# Altium footprint library Power Board PCB Lib.PcbLib: 20 footprints (part 1 of 2)
Each footprint in its own frame and in the unit in brackets; x right, y up, seen from the top. Pads: shape width x height; smd on the part's side, far side on the other; paste and mask are expansions set on the pad; w line width, h text height; cw(c..) or ccw(c..) is an arc to the next point about the centre after c.
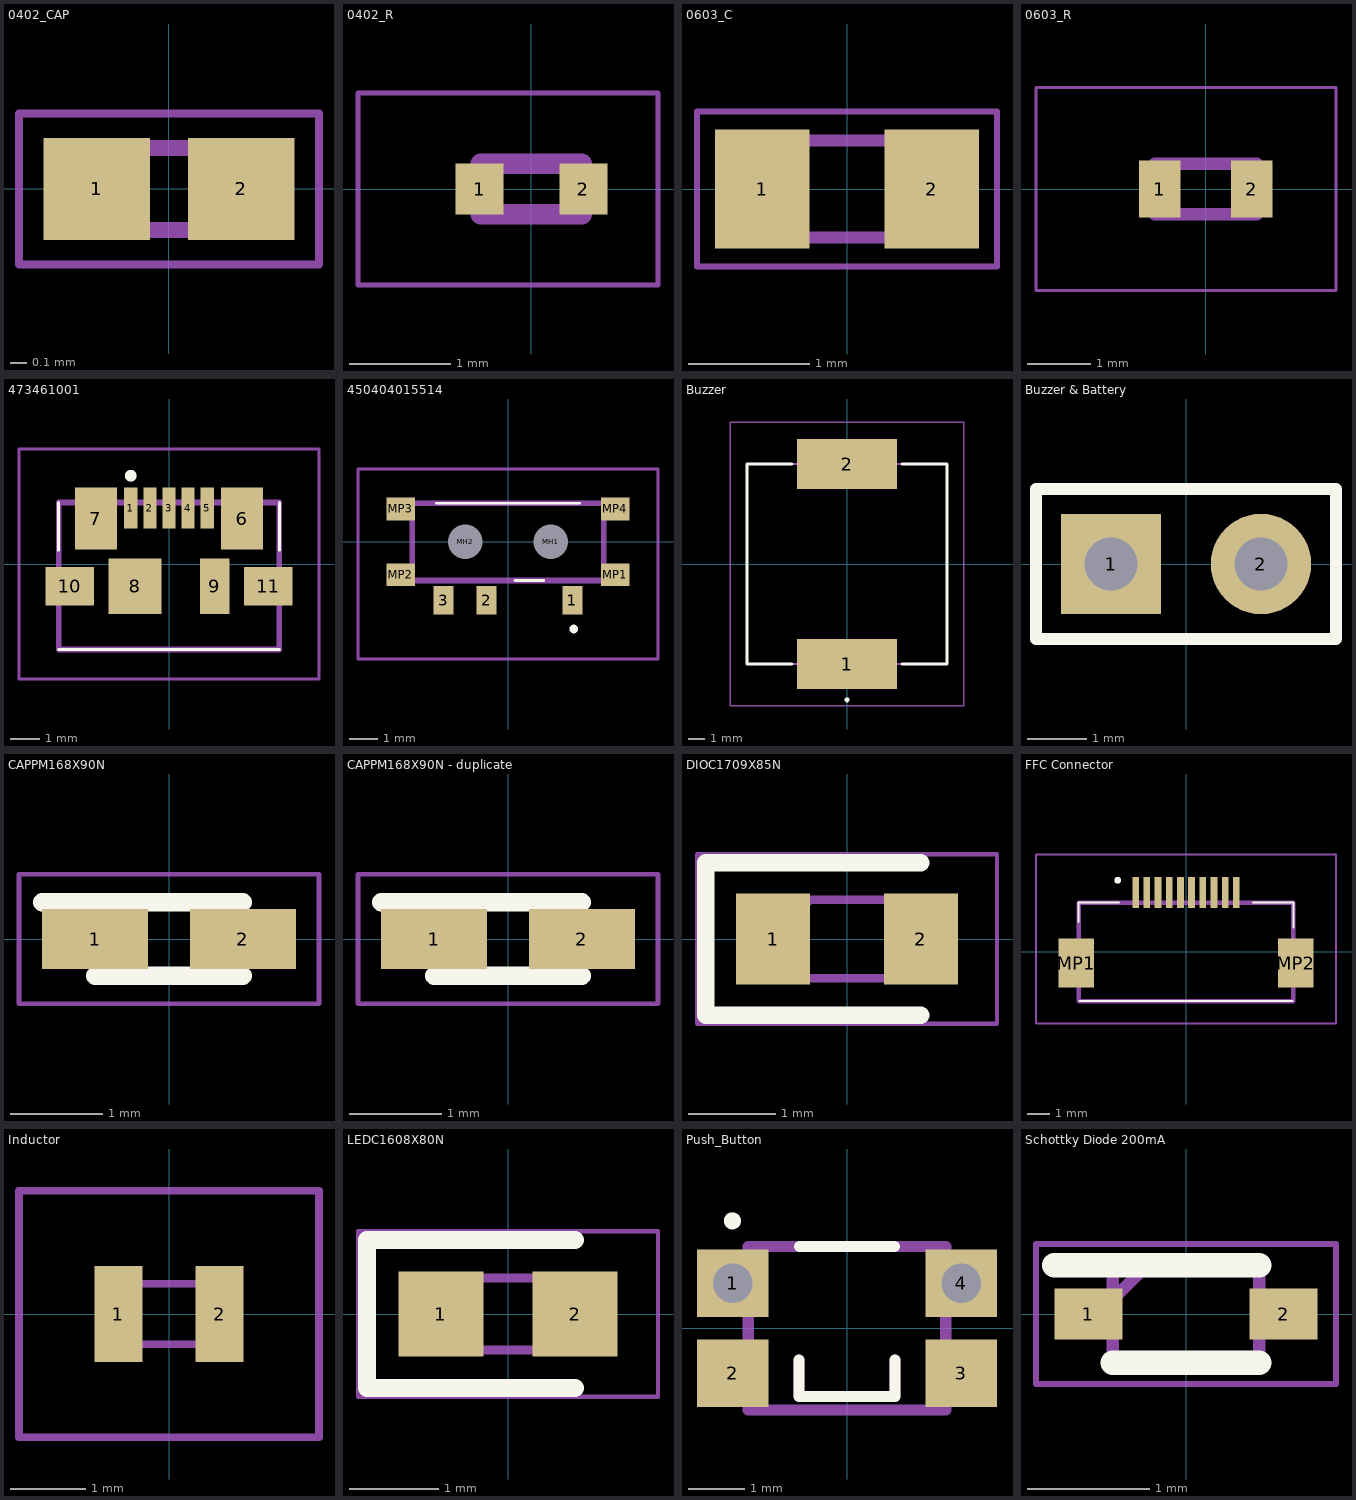
[diagram p0: the footprints below, top view; thin cyan lines are the x and y axes]

## 0402_CAP [mm]
pads (2):
  rect 0.65x0.62 smd: 1(-0.44,0) 2(0.44,0)
Mechanical 13:
  lines w0.1: -0.5,-0.25 -0.5,0.25 0.5,0.25 0.5,-0.25 -0.5,-0.25
Mechanical 15:
  lines w0.05: -0.915,-0.46 -0.915,0.46 0.915,0.46 0.915,-0.46 -0.915,-0.46
3D body "C0402C474K8RACTU.stp": height 0.55, standoff 0, extent -0.5,-0.25 0.5,0.25

## 0402_R [mm]
pads (2):
  rect 0.475x0.5 smd: 1(-0.513,0) 2(0.513,0)
Mechanical 13:
  lines w0.2: -0.5,-0.25 0.5,-0.25 0.5,0.25 -0.5,0.25 -0.5,-0.25
Mechanical 15:
  lines w0.05: -1.713,-0.95 1.25,-0.95 1.25,0.95 -1.713,0.95 -1.713,-0.95
3D body "ERA-2ARB472X.stp": height 0.35, standoff 0, extent -0.5,-0.25 0.5,0.25

## 0603_C [mm]
pads (2):
  rect 0.78x0.98 smd: 1(-0.7,0) 2(0.7,0)
Mechanical 13:
  lines w0.1: -0.8,-0.4 -0.8,0.4 0.8,0.4 0.8,-0.4 -0.8,-0.4
Mechanical 15:
  lines w0.05: -1.24,-0.64 -1.24,0.64 1.24,0.64 1.24,-0.64 -1.24,-0.64
3D body "VJ0603HIFRQ1KIT.stp": height 0.97, standoff 0, extent -0.8,-0.4 0.8,0.4

## 0603_R [mm]
pads (2):
  rect 0.65x0.9 smd: 1(-0.725,0) 2(0.725,0)
Mechanical 13:
  lines w0.2: -0.8,-0.4 0.8,-0.4 0.8,0.4 -0.8,0.4 -0.8,-0.4
Mechanical 15:
  lines w0.05: -2.675,-1.6 2.05,-1.6 2.05,1.6 -2.675,1.6 -2.675,-1.6
3D body "ERA-3KEB2403V.stp": height 0.46, standoff 0, extent -0.8,-0.4 0.8,0.4

## 473461001 [mm]
pads (11):
  rect 0.45x1.38 smd: 1(-1.3,1.903) 2(-0.65,1.903) 3(0,1.903) 4(0.65,1.903) 5(1.3,1.903)
  rect 1.425x2.1 smd: 6(2.487,1.544) 7(-2.487,1.544)
  rect 1.8x1.9 smd: 8(-1.15,-0.756)
  rect 1x1.9 smd: 9(1.55,-0.756)
  rect 1.65x1.3 smd: 10(-3.375,-0.756) 11(3.375,-0.756)
Top Overlay:
  lines w0.1: -3.75,-2.906 3.75,-2.906 ; -3.75,0.467 -3.75,2.094 ; 3.75,0.467 3.75,2.094
  lines w0.2: -1.3,2.9 ccw(c-1.3,3) -1.3,3.1 ccw(c-1.3,3) -1.3,2.9
Mechanical 13:
  lines w0.2: -3.75,-2.906 -3.75,2.094 3.75,2.094 3.75,-2.906 -3.75,-2.906
Mechanical 15:
  lines w0.1: -5.1,-3.906 -5.1,3.906 5.1,3.906 5.1,-3.906 -5.1,-3.906
3D body "47346-1001.stp": height 2.66, standoff -0.05, extent -3.9,-2.92 3.9,2.08

## 450404015514 [mm]
pads (9):
  rect 0.7x1 smd: 1(2.25,-2.05) 2(-0.75,-2.05) 3(-2.25,-2.05)
  round 0.6 hole 1.2 unplated: MH1(1.5,0) MH2(-1.5,0)
  rect 1x0.8 smd: MP1(3.75,-1.15) MP2(-3.75,-1.15) MP3(-3.75,1.15) MP4(3.75,1.15)
Top Overlay:
  lines w0.1: -2.5,1.35 2.5,1.35 -2.5,1.35 ; 0.25,-1.35 1.25,-1.35 0.25,-1.35
  lines w0.2: 2.3,-3.1 cw(c2.3,-3.05) 2.3,-3 ; 2.3,-3.1 ccw(c2.3,-3.05) 2.3,-3 ; 2.3,-3.1 cw(c2.3,-3.05) 2.3,-3
Mechanical 13:
  lines w0.2: -3.35,-1.35 3.35,-1.35 3.35,1.35 -3.35,1.35 -3.35,-1.35
Mechanical 15:
  lines w0.1: -5.25,-4.1 5.25,-4.1 5.25,2.55 -5.25,2.55 -5.25,-4.1
3D body "450404015514.stp": height 1.4, standoff -0.5, extent -3.85,-2.25 3.85,2.88

## Buzzer [mm]
pads (2):
  rect 6x3 smd: 1(0,-6) 2(0,6)
Top Overlay:
  lines w0.2: -3.3,-6 -6,-6 -6,6 -3.3,6 ; 3.3,-6 6,-6 6,6 3.3,6 ; 0,-8.2 ccw(c0,-8.15) 0,-8.1 ; 0,-8.2 cw(c0,-8.15) 0,-8.1 ; 0,-8.2 ccw(c0,-8.15) 0,-8.1
Mechanical 13:
  lines w0.1: -6,-6 6,-6 6,6 -6,6 -6,-6
Mechanical 15:
  lines w0.1: -7,-8.5 7,-8.5 7,8.5 -7,8.5 -7,-8.5
3D body "CPT-12123-81-SMT-TR.stp": height 3.4, standoff 0, extent -6,-7.2 6,7.2

## Buzzer & Battery [mm]
pads (2):
  rect 1.7x1.7 hole 0.9: 1(-1.27,0)
  round 1.7 hole 0.9: 2(1.27,0)
Top Overlay:
  lines w0.2: -2.54,-1.27 2.54,-1.27 2.54,1.27 -2.54,1.27 -2.54,-1.27

## CAPPM168X90N [mm]
pads (2):
  rect 1.15x0.65 smd: 1(-0.8,0) 2(0.8,0)
Top Overlay:
  lines w0.2: -1.375,0.4 0.8,0.4 ; -0.8,-0.4 0.8,-0.4
Mechanical 13:
  lines w0.1: -0.8,0.075 -0.475,0.4 ; -0.8,-0.4 0.8,-0.4 0.8,0.4 -0.8,0.4 -0.8,-0.4
Mechanical 15:
  lines w0.05: -1.625,-0.7 1.625,-0.7 1.625,0.7 -1.625,0.7 -1.625,-0.7
3D body "TMCJ0J475MTRF.stp": height 0.9, standoff 0, extent -0.8,-0.4 0.8,0.4

## CAPPM168X90N - duplicate [mm]
pads (2):
  rect 1.15x0.65 smd: 1(-0.8,0) 2(0.8,0)
Top Overlay:
  lines w0.2: -1.375,0.4 0.8,0.4 ; -0.8,-0.4 0.8,-0.4
Mechanical 13:
  lines w0.1: -0.8,0.075 -0.475,0.4 ; -0.8,-0.4 0.8,-0.4 0.8,0.4 -0.8,0.4 -0.8,-0.4
Mechanical 15:
  lines w0.05: -1.625,-0.7 1.625,-0.7 1.625,0.7 -1.625,0.7 -1.625,-0.7
3D body "TMCJ0J475MTRF.stp": height 0.9, standoff 0, extent -0.8,-0.4 0.8,0.4

## DIOC1709X85N [mm]
pads (2):
  rect 0.85x1.05 smd: 1(-0.85,0) 2(0.85,0)
Top Overlay:
  lines w0.2: 0.85,-0.875 -1.625,-0.875 -1.625,0.875 0.85,0.875
Mechanical 13:
  lines w0.1: -0.85,0.025 -0.425,0.45 ; -0.85,-0.45 0.85,-0.45 0.85,0.45 -0.85,0.45 -0.85,-0.45
Mechanical 15:
  lines w0.05: -1.725,-0.975 1.725,-0.975 1.725,0.975 -1.725,0.975 -1.725,-0.975
3D body "CDBU0520.stp": height 0.85, standoff 0, extent -0.85,-0.45 0.85,0.45

## FFC Connector [mm]
pads (12):
  rect 0.3x1.4 smd: 1(-2.25,2.65) 2(-1.75,2.65) 3(-1.25,2.65) 4(-0.75,2.65) 5(-0.25,2.65) 6(0.25,2.65) 7(0.75,2.65) 8(1.25,2.65) 9(1.75,2.65) 10(2.25,2.65)
  rect 1.6x2.2 smd: MP1(-4.9,-0.5) MP2(4.9,-0.5)
Top Overlay:
  lines w0.1: -4.8,2.2 -3,2.2 -4.8,2.2 ; -4.8,2.2 -4.8,1.35 -4.8,2.2 ; 4.8,2.2 4.8,1.1 4.8,2.2 ; 4.8,2.2 3,2.2 4.8,2.2 ; -4.75,-2.2 4.75,-2.2 -4.75,-2.2
  lines w0.2: -3.1,3.2 ccw(c-3.05,3.2) -3,3.2 ; -3.1,3.2 cw(c-3.05,3.2) -3,3.2 ; -3.1,3.2 ccw(c-3.05,3.2) -3,3.2
Mechanical 13:
  lines w0.2: -4.8,-2.2 4.8,-2.2 4.8,2.2 -4.8,2.2 -4.8,-2.2
Mechanical 15:
  lines w0.1: -6.7,-3.2 6.7,-3.2 6.7,4.35 -6.7,4.35 -6.7,-3.2
3D body "52892-1033.stp": height 2.1, standoff 0, extent -5.54,-2.2 5.54,3.32

## Inductor [mm]
pads (2):
  rect 0.64x1.27 smd: 1(-0.67,0) 2(0.67,0)
Mechanical 13:
  lines w0.1: -0.8,-0.4 -0.8,0.4 0.8,0.4 0.8,-0.4 -0.8,-0.4
Mechanical 15:
  lines w0.1: -1.99,-1.635 -1.99,1.635 1.99,1.635 1.99,-1.635 -1.99,-1.635

## LEDC1608X80N [mm]
pads (2):
  rect 0.95x0.95 smd: 1(-0.75,0) 2(0.75,0)
Top Overlay:
  lines w0.2: 0.75,-0.825 -1.575,-0.825 -1.575,0.825 0.75,0.825
Mechanical 13:
  lines w0.1: -0.8,0.133 -0.533,0.4 ; -0.8,-0.4 0.8,-0.4 0.8,0.4 -0.8,0.4 -0.8,-0.4
Mechanical 15:
  lines w0.05: -1.675,-0.925 1.675,-0.925 1.675,0.925 -1.675,0.925 -1.675,-0.925
3D body "150060RS75000.stp": height 0.7, standoff 0, extent -0.8,-0.4 0.8,0.4

## Push_Button [mm]
pads (4):
  rect 1.27x1.2 hole 0.7: 1(-2.025,0.8) 4(2.025,0.8)
  rect 1.27x1.2 smd: 2(-2.025,-0.8) 3(2.025,-0.8)
Top Overlay:
  circle w0.2: c-2.032,1.905 r0.051
  lines w0.2: -0.85,-0.561 -0.85,-1.211 0.85,-1.211 0.85,-0.561 ; -0.842,1.45 0.842,1.45
Mechanical 13:
  lines w0.2: -0.85,-0.561 -0.85,-1.211 0.85,-1.211 0.85,-0.561 ; -1.75,-1.45 -1.75,1.45 1.75,1.45 1.75,-1.45 -1.75,-1.45
3D body "71071080.stp": height 1.65, standoff 0, extent -2.75,-2.794 2.75,1.706

## Schottky Diode 200mA [mm]
pads (2):
  rect 0.56x0.42 smd: 1(-0.8,0) 2(0.8,0)
Top Overlay:
  lines w0.2: -1.08,0.4 0.6,0.4 ; -0.6,-0.4 0.6,-0.4
Mechanical 13:
  lines w0.1: -0.6,0.12 -0.32,0.4 ; -0.6,-0.4 -0.6,0.4 0.6,0.4 0.6,-0.4 -0.6,-0.4
Mechanical 15:
  lines w0.05: -1.23,-0.575 -1.23,0.575 1.23,0.575 1.23,-0.575 -1.23,-0.575
3D body "RB531SM-30FHT2R.stp": height 0.7, standoff 0, extent -0.8,-0.4 0.8,0.4